# EAGLE library part SA636-40 (library QFP48forZIF)
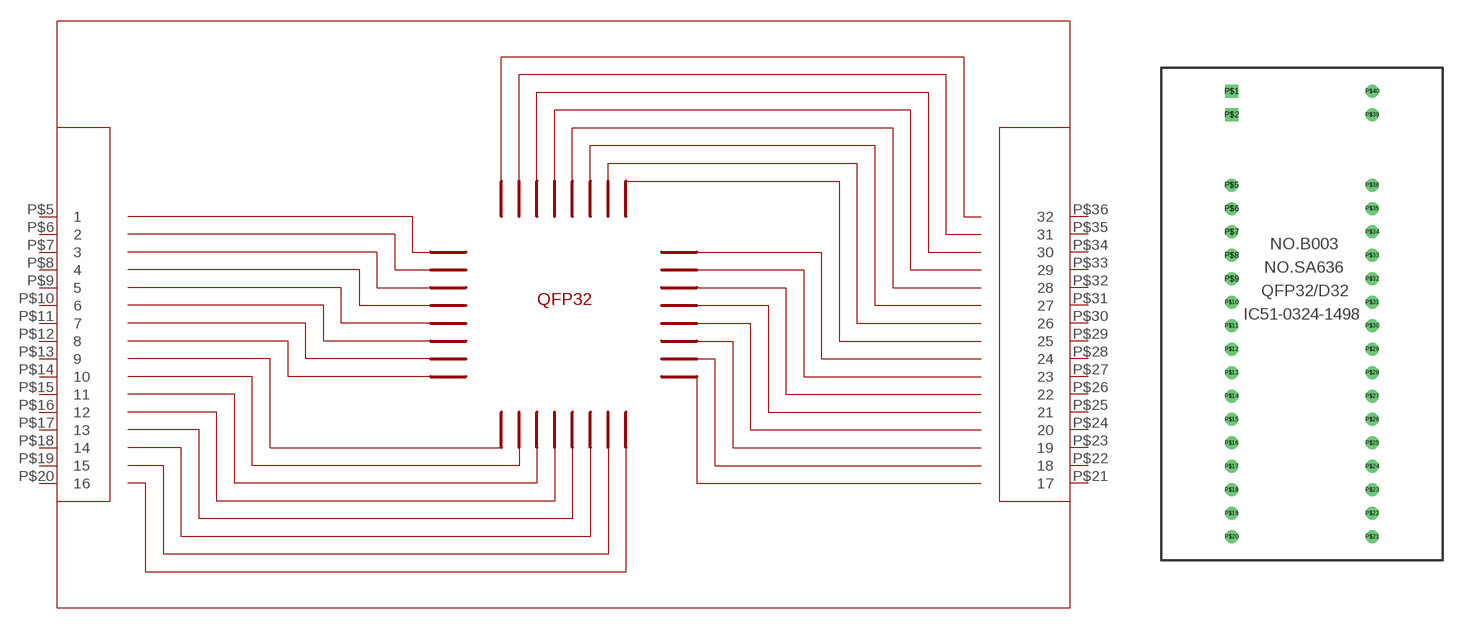
[diagram p0: symbol with the pads of ADAPTERQFP48FORZIF; footprint ADAPTERQFP48FORZIF]

Designator prefix -

## SA636-40  [ADAPTERQFP48FORZIF]
P$5  1
P$6  2
P$7  3
P$8  4
P$9  5
P$10  6
P$11  7
P$12  8
P$13  9
P$14  10
P$15  11
P$16  12
P$17  13
P$18  14
P$19  15
P$20  16
P$21  17
P$22  18
P$23  19
P$24  20
P$25  21
P$26  22
P$27  23
P$28  24
P$29  25
P$30  26
P$31  27
P$32  28
P$33  29
P$34  30
P$35  31
P$36  32

## Footprint ADAPTERQFP48FORZIF (pad centres in mm)
drill 0.9 square: P$1 -7.62,22.86; P$2 -7.62,20.32
drill 0.9: P$5 -7.62,12.7; P$6 -7.62,10.16; P$7 -7.62,7.62; P$8 -7.62,5.08; P$9 -7.62,2.54; P$10 -7.62,0; P$11 -7.62,-2.54; P$12 -7.62,-5.08; P$13 -7.62,-7.62; P$14 -7.62,-10.16; P$15 -7.62,-12.7; P$16 -7.62,-15.24; P$17 -7.62,-17.78; P$18 -7.62,-20.32; P$19 -7.62,-22.86; P$20 -7.62,-25.4; P$21 7.62,-25.4; P$22 7.62,-22.86; P$23 7.62,-20.32; P$24 7.62,-17.78; P$25 7.62,-15.24; P$26 7.62,-12.7; P$27 7.62,-10.16; P$28 7.62,-7.62; P$29 7.62,-5.08; P$30 7.62,-2.54; P$31 7.62,0; P$32 7.62,2.54; P$33 7.62,5.08; P$34 7.62,7.62; P$35 7.62,10.16; P$36 7.62,12.7; P$39 7.62,20.32; P$40 7.62,22.86